# EAGLE library part G6KU-2?* (library Omron-G6K-Relay)
OMRON Subminiature low power latching relay - DPDT Note: see G6K- variant for non-latching relays Packages: F SMD wings (to the side) G SMD J leads (under) P Through-hole Features no suffix: 1500v coil-switch insulation -Y suffix: 2500v coil-switch insulation
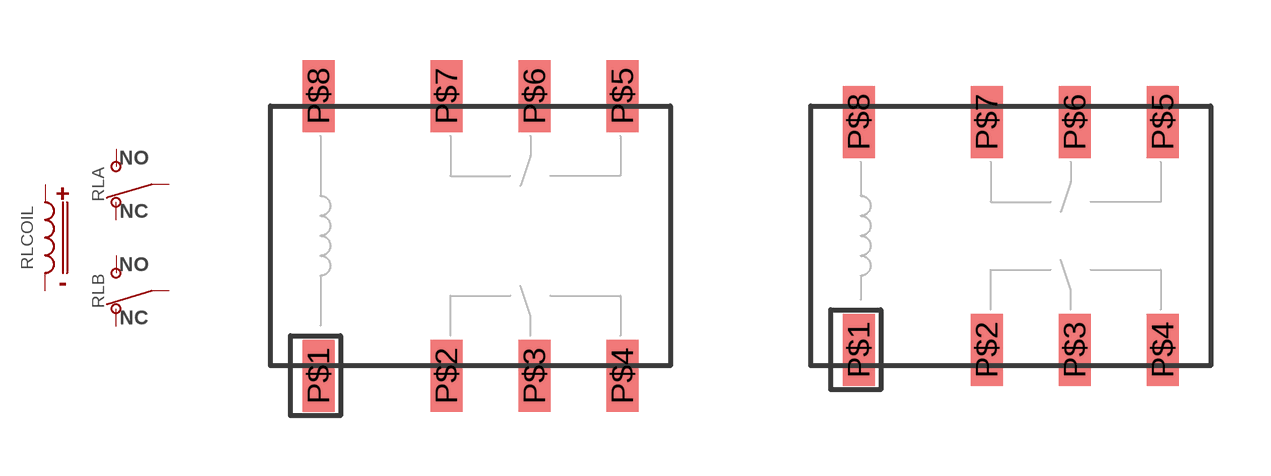
[diagram p1: symbol with the pads of F; footprints F, G]

Designator prefix RL; gates A=SPDT B=SPDT COIL=COIL_LATCH

## G6KU-2F-Y-DC12, G6KU-2F-Y-DC24, G6KU-2F-Y-DC3, G6KU-2F-Y-DC4.5, G6KU-2F-Y-DC5  [F]
P$1  COIL:C1
P$2  A:NC
P$3  A:C
P$4  A:NO
P$5  B:NO
P$6  B:C
P$7  B:NC
P$8  COIL:C2

## G6KU-2G-Y-DC12, G6KU-2G-Y-DC24, G6KU-2G-Y-DC3, G6KU-2G-Y-DC4.5, G6KU-2G-Y-DC5  [G]
Pads as for F

## G6KU-2F-DC12, G6KU-2F-DC24, G6KU-2F-DC3, G6KU-2F-DC4.5, G6KU-2F-DC5  [F]
Pads as for F

## G6KU-2G-DC12, G6KU-2G-DC24, G6KU-2G-DC3, G6KU-2G-DC4.5, G6KU-2G-DC5  [G]
Pads as for F

## G6KU-2P-DC12, G6KU-2P-DC24, G6KU-2P-DC3, G6KU-2P-DC4.5, G6KU-2P-DC5  [P]
Pads as for F

## G6KU-2P-Y-DC12, G6KU-2P-Y-DC24, G6KU-2P-Y-DC3, G6KU-2P-Y-DC4.5, G6KU-2P-Y-DC5  [P]
Pads as for F

## Footprint F (pad centres in mm)
smd 0.8 x 1.8: P$1 -3.8,-3.5; P$2 -0.6,-3.5; P$3 1.6,-3.5; P$4 3.8,-3.5; P$5 3.8,3.5; P$6 1.6,3.5; P$7 -0.6,3.5; P$8 -3.8,3.5

## Footprint G (pad centres in mm)
smd 0.8 x 1.8: P$1 -3.8,-2.85; P$2 -0.6,-2.85; P$3 1.6,-2.85; P$4 3.8,-2.85; P$5 3.8,2.85; P$6 1.6,2.85; P$7 -0.6,2.85; P$8 -3.8,2.85

## Footprint P (pad centres in mm)
drill 0.85 square: P$1 -5.08,-2.54
drill 0.85: P$2 -2.54,-2.54; P$3 0,-2.54; P$4 2.54,-2.54; P$5 2.54,2.54; P$6 0,2.54; P$7 -2.54,2.54; P$8 -5.08,2.54